# Altium footprint library OpenCM 9.04.PcbLib: 1 footprints
Each footprint in its own frame and in the unit in brackets; x right, y up, seen from the top. Pads: shape width x height; smd on the part's side, far side on the other; paste and mask are expansions set on the pad; w line width, h text height; cw(c..) or ccw(c..) is an arc to the next point about the centre after c.
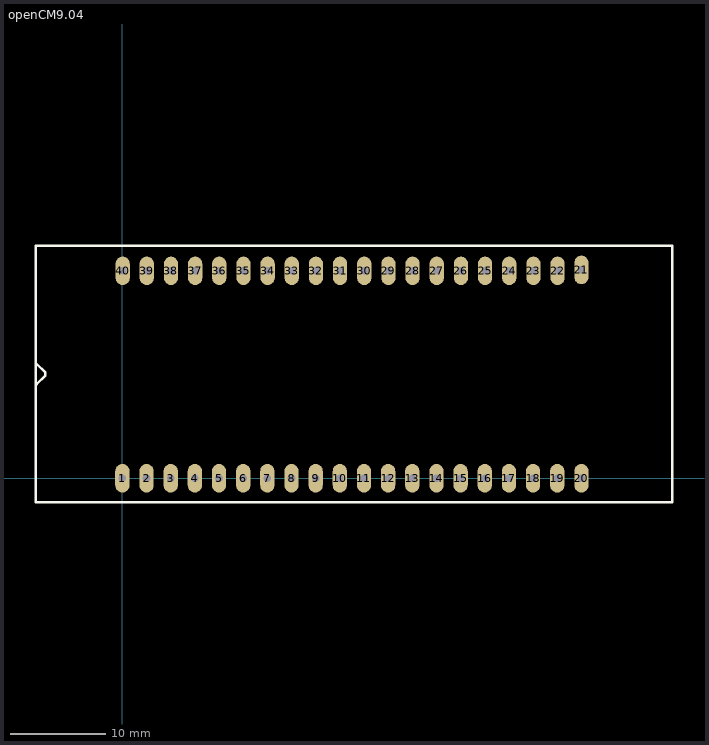
[diagram p0: the footprint, top view; thin cyan lines are the x and y axes]

## openCM9.04 [mm]
pads (40):
  oval 1.5x3 hole 0.8: 1(0,0) 2(2.54,0) 3(5.08,0) 4(7.62,0) 5(10.16,0) 6(12.7,0) 7(15.24,0) 8(17.78,0) 9(20.32,0) 10(22.86,0) 11(25.4,0) 12(27.94,0) 13(30.48,0) 14(33.02,0) 15(35.56,0) 16(38.1,0) 17(40.64,0) 18(43.18,0) 19(45.72,0) 20(48.26,0) 21(48.26,21.9) 22(45.75,21.8) 23(43.21,21.8) 24(40.67,21.8) 25(38.13,21.8) 26(35.59,21.8) 27(33.05,21.8) 28(30.51,21.8) 29(27.97,21.8) 30(25.43,21.8) 31(22.89,21.8) 32(20.35,21.8) 33(17.81,21.8) 34(15.27,21.8) 35(12.73,21.8) 36(10.19,21.8) 37(7.65,21.8) 38(5.11,21.8) 39(2.57,21.8) 40(0.03,21.8)
Top Overlay:
  lines w0.254: -9.1,12 -9,12 -8.1,11.1 -8.1,10.8 -9,9.9 ; -9.1,-2.54 57.8,-2.54 57.8,24.46 -9.1,24.46 -9.1,-2.54